# EAGLE library part TEENSY_4.1 (library Teensy41)
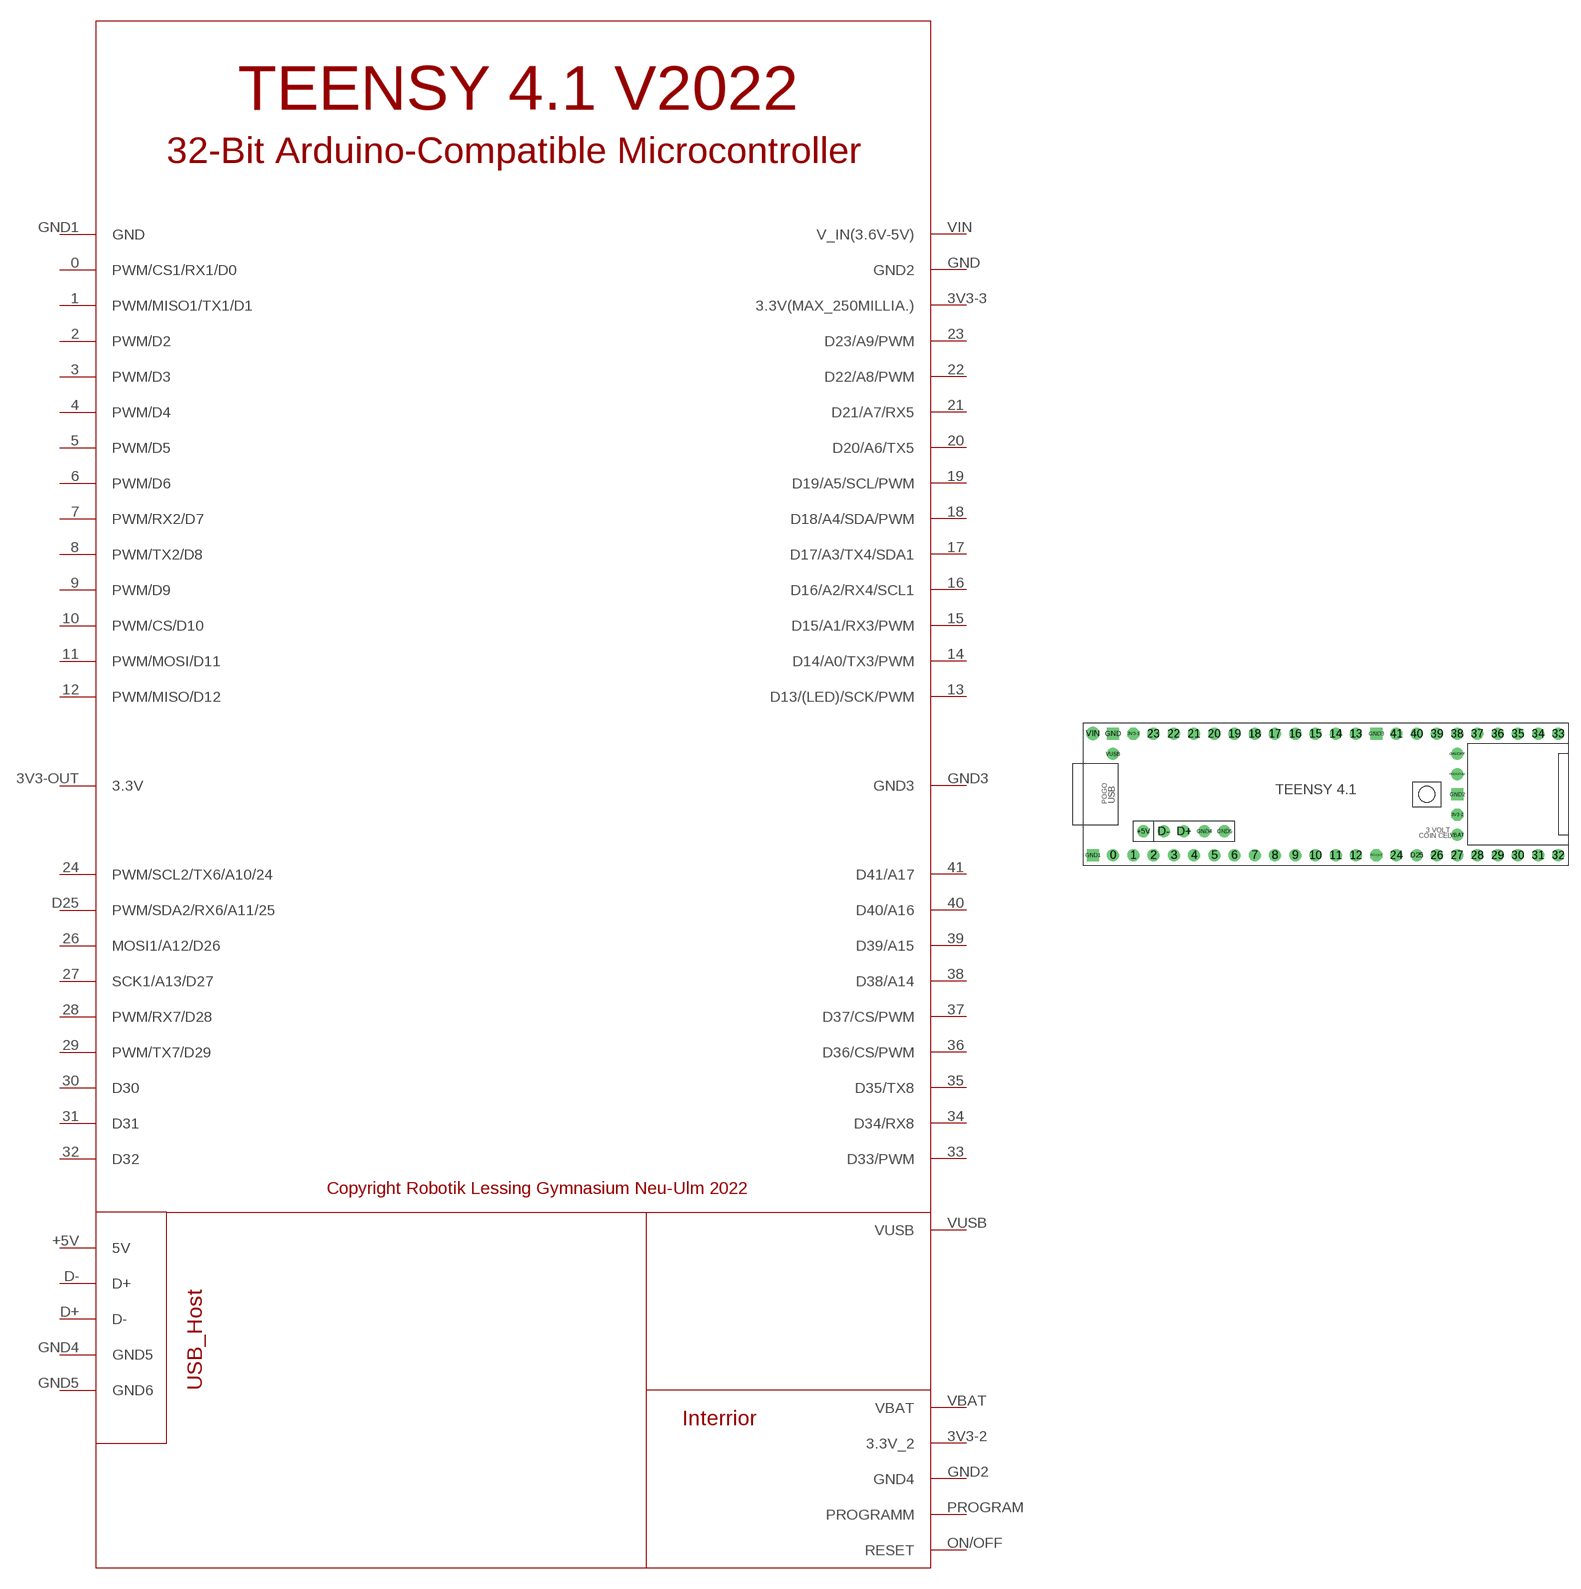
[diagram p0: symbol with the pads of TEENSY_4.1; footprint TEENSY_4.1]

Designator prefix -

## TEENSY_4.1  [TEENSY_4.1]
0  PWM/CS1/RX1/D0
1  PWM/MISO1/TX1/D1
2  PWM/D2
3  PWM/D3
3V3-2  3.3V_2
3V3-3  3.3V(MAX_250MILLIA.)
3V3-OUT  3.3V
4  PWM/D4
5  PWM/D5
6  PWM/D6
7  PWM/RX2/D7
8  PWM/TX2/D8
9  PWM/D9
10  PWM/CS/D10
11  PWM/MOSI/D11
12  PWM/MISO/D12
13  D13/(LED)/SCK/PWM
14  D14/A0/TX3/PWM
15  D15/A1/RX3/PWM
16  D16/A2/RX4/SCL1
17  D17/A3/TX4/SDA1
18  D18/A4/SDA/PWM
19  D19/A5/SCL/PWM
20  D20/A6/TX5
21  D21/A7/RX5
22  D22/A8/PWM
23  D23/A9/PWM
24  PWM/SCL2/TX6/A10/24
26  MOSI1/A12/D26
27  SCK1/A13/D27
28  PWM/RX7/D28
29  PWM/TX7/D29
30  D30
31  D31
32  D32
33  D33/PWM
34  D34/RX8
35  D35/TX8
36  D36/CS/PWM
37  D37/CS/PWM
38  D38/A14
39  D39/A15
40  D40/A16
41  D41/A17
+5V  5V
D25  PWM/SDA2/RX6/A11/25
D+  D-
D-  D+
GND  GND2
GND1  GND
GND2  GND4
GND3  GND3
GND4  GND5
GND5  GND6
ON/OFF  RESET
PROGRAM  PROGRAMM
VBAT  VBAT
VIN  V_IN(3.6V-5V)
VUSB  VUSB

## Footprint TEENSY_4.1 (pad centres in mm)
Teensy 4.1 A simple to use and good looking Teensy 4.1 libary for Eagle.
drill 1: 0 -26.67,-7.62; 1 -24.13,-7.62; 2 -21.59,-7.62; 3 -19.05,-7.62; 4 -16.51,-7.62; 5 -13.97,-7.62; 6 -11.43,-7.62; 7 -8.89,-7.62; 8 -6.35,-7.62; 9 -3.81,-7.62; 10 -1.27,-7.62; 11 1.27,-7.62; 12 3.81,-7.62; 13 3.81,7.62; 14 1.27,7.62; 15 -1.27,7.62; 16 -3.81,7.62; 17 -6.35,7.62; 18 -8.89,7.62; 19 -11.43,7.62; 20 -13.97,7.62; 21 -16.51,7.62; 22 -19.05,7.62; 23 -21.59,7.62; 24 8.89,-7.62; 26 13.97,-7.62; 27 16.51,-7.62; 28 19.05,-7.62; 29 21.59,-7.62; 30 24.13,-7.62; 31 26.67,-7.62; 32 29.21,-7.62; 33 29.21,7.62; 34 26.67,7.62; 35 24.13,7.62; 36 21.59,7.62; 37 19.05,7.62; 38 16.51,7.62; 39 13.97,7.62; 40 11.43,7.62; 41 8.89,7.62; +5V -22.86,-4.62; D25 11.43,-7.62; D+ -17.78,-4.62; D- -20.32,-4.62; GND4 -15.24,-4.62; GND5 -12.7,-4.62; ON/OFF 16.51,5.08; PROGRAM 16.51,2.54; VBAT 16.51,-5.08; VUSB -26.67,5.08
drill 1 octagon: 3V3-2 16.51,-2.54; 3V3-3 -24.13,7.62; 3V3-OUT 6.35,-7.62
drill 1 square: GND -26.67,7.62; GND1 -29.21,-7.62; GND2 16.51,0; GND3 6.35,7.62
drill 1 pad 1.676: VIN -29.21,7.62